# EAGLE library part RESISTORPACK-9 (library SPCoast)
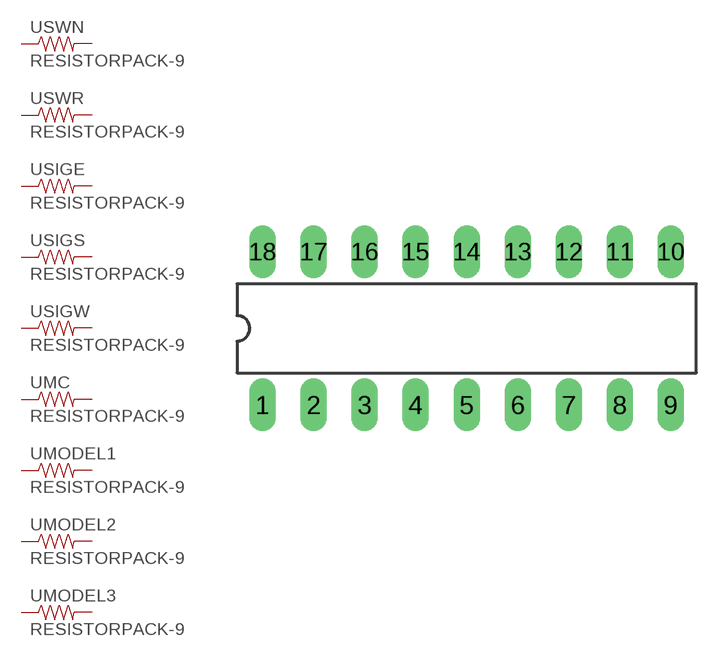
[diagram p45: symbol with the pads of DIL18; footprint DIL18]

Designator prefix -; gates SWN=RESISTOR SWR=RESISTOR SIGE=RESISTOR SIGS=RESISTOR SIGW=RESISTOR MC=RESISTOR MODEL1=RESISTOR MODEL2=RESISTOR MODEL3=RESISTOR

## RESISTORPACK-9  [DIL18]
1  SWN:1  pas
2  SWR:1  pas
3  SIGE:1  pas
4  SIGS:1  pas
5  SIGW:1  pas
6  MC:1  pas
7  MODEL1:1  pas
8  MODEL2:1  pas
9  MODEL3:1  pas
10  MODEL3:2  pas
11  MODEL2:2  pas
12  MODEL1:2  pas
13  MC:2  pas
14  SIGW:2  pas
15  SIGS:2  pas
16  SIGE:2  pas
17  SWR:2  pas
18  SWN:2  pas

## Footprint DIL18 (pad centres in mm)
Dual In Line package type P
drill 0.813 long: 1 -10.16,-3.81; 2 -7.62,-3.81; 3 -5.08,-3.81; 4 -2.54,-3.81; 5 0,-3.81; 6 2.54,-3.81; 7 5.08,-3.81; 8 7.62,-3.81; 9 10.16,-3.81; 10 10.16,3.81; 11 7.62,3.81; 12 5.08,3.81; 13 2.54,3.81; 14 0,3.81; 15 -2.54,3.81; 16 -5.08,3.81; 17 -7.62,3.81; 18 -10.16,3.81